# Altium footprint library HDDR_5x1_0.PcbLib: 1 footprints
Each footprint in its own frame and in the unit in brackets; x right, y up, seen from the top. Pads: shape width x height; smd on the part's side, far side on the other; paste and mask are expansions set on the pad; w line width, h text height; cw(c..) or ccw(c..) is an arc to the next point about the centre after c.
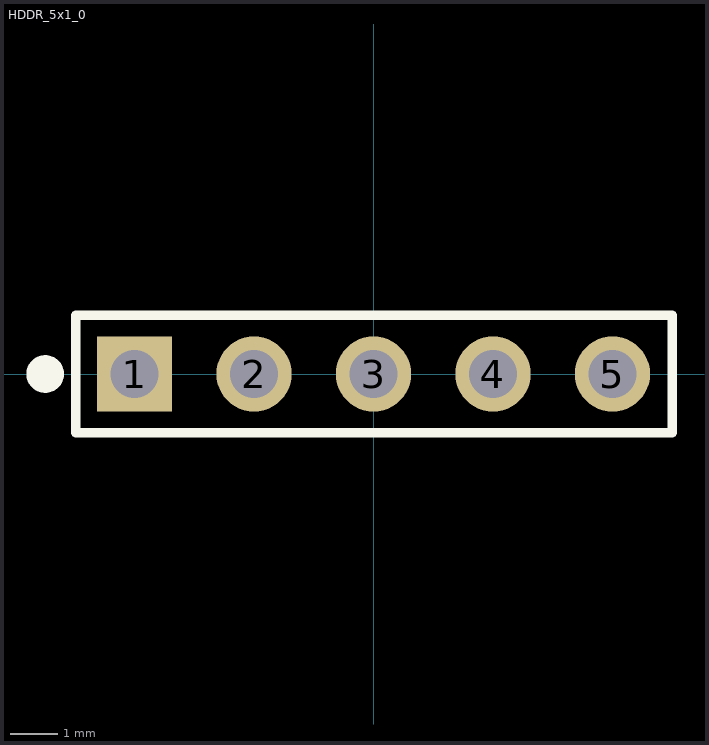
[diagram p0: the footprint, top view; thin cyan lines are the x and y axes]

## HDDR_5x1_0 [mm]
pads (5):
  rect 1.6x1.6 hole 1.02: 1(-5.08,0)
  round 1.6 hole 1.02: 2(-2.54,0) 3(0,0) 4(2.54,0) 5(5.08,0)
Top Overlay:
  circle w0.4: c-6.98,0 r0.2
  lines w0.2: -6.33,-1.25 6.35,-1.25 6.35,1.25 -6.33,1.25 -6.33,-1.25
3D body "hddr_male_5x1.SLDPRT": height 8.54, standoff -3, extent -6.35,-1.29 6.35,1.25